# Altium schematic symbol library bigPin_power_port.SchLib: 1 symbol
Pins are listed as number, name and electrical type; pins without a type are passive.

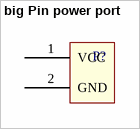
[diagram p0: symbol big Pin power port]

## big Pin power port
designator P?  (value not drawn)
big Pin power port
footprint bigPin_power_port
pins: 1 VCC, 2 GND